# Altium footprint library VBPW34S.PcbLib: 1 footprints
Each footprint in its own frame and in the unit in brackets; x right, y up, seen from the top. Pads: shape width x height; smd on the part's side, far side on the other; paste and mask are expansions set on the pad; w line width, h text height; cw(c..) or ccw(c..) is an arc to the next point about the centre after c.
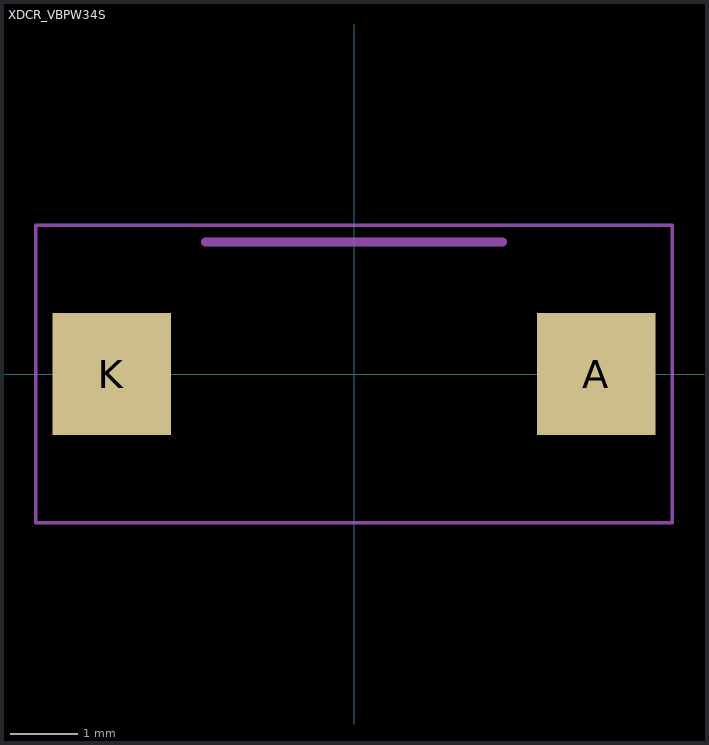
[diagram p0: the footprint, top view; thin cyan lines are the x and y axes]

## XDCR_VBPW34S [mm]
pads (2):
  rect 1.75x1.8 smd: A(3.575,0) K(-3.575,0)
Mechanical 13:
  lines w0.127: -2.2,1.95 2.2,1.95
Mechanical 15:
  lines w0.05: -4.7,-2.2 4.7,-2.2 4.7,2.2 -4.7,2.2 -4.7,-2.2
3D body "step_temp.STEP": height 1.4, standoff 0, extent -3.2,-1.95 3.2,1.95